# EAGLE library part APT8L08 (library pimoroni-ics)
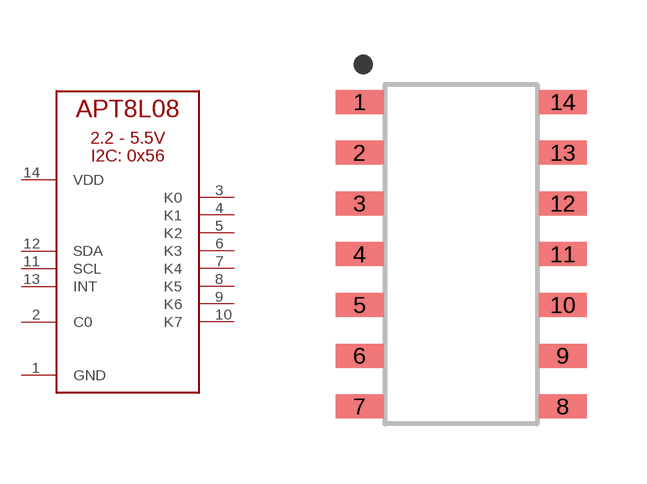
[diagram p130: symbol with the pads of SOP14-150MIL; footprint SOP14-150MIL]

Designator prefix U

## APT8L08  [SOP14-150MIL]
1  GND
2  C0
3  K0
4  K1
5  K2
6  K3
7  K4
8  K5
9  K6
10  K7
11  SCL
12  SDA
13  INT
14  VDD

## Footprint SOP14-150MIL (pad centres in mm)
smd 1.2 x 0.6: 1 -2.54,3.81; 2 -2.54,2.54; 3 -2.54,1.27; 4 -2.54,0; 5 -2.54,-1.27; 6 -2.54,-2.54; 7 -2.54,-3.81; 8 2.54,-3.81; 9 2.54,-2.54; 10 2.54,-1.27; 11 2.54,0; 12 2.54,1.27; 13 2.54,2.54; 14 2.54,3.81